# EAGLE library part TPS54625 (library Bauteile)
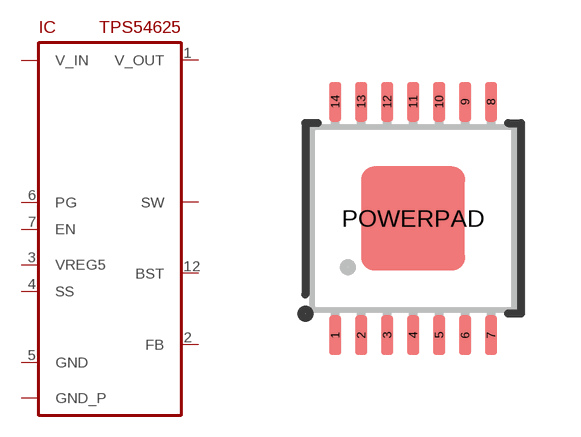
[diagram p116: symbol with the pads of TSSOP14_POWERPAD; footprint TSSOP14_POWERPAD]

Designator prefix IC

## TPS54625  [TSSOP14_POWERPAD]
1  V_OUT
2  FB
3  VREG5
4  SS
5  GND
6  PG
7  EN
8  GND_P
9  GND_P
10  SW
11  SW
12  BST
13  V_IN
14  V_IN
POWERPAD  GND_P

## Footprint TSSOP14_POWERPAD (pad centres in mm)
smd 0.305 x 0.991: 1 -1.95,-2.918; 2 -1.3,-2.918; 3 -0.65,-2.918; 4 0,-2.918; 5 0.65,-2.918; 6 1.3,-2.918; 7 1.95,-2.918; 8 1.95,2.918; 9 1.3,2.918; 10 0.65,2.918; 11 0,2.918; 12 -0.65,2.918; 13 -1.3,2.918; 14 -1.95,2.918
smd 2.6 x 2.6: POWERPAD 0,0